# EAGLE library part ADXL345BKO (library domonetic)
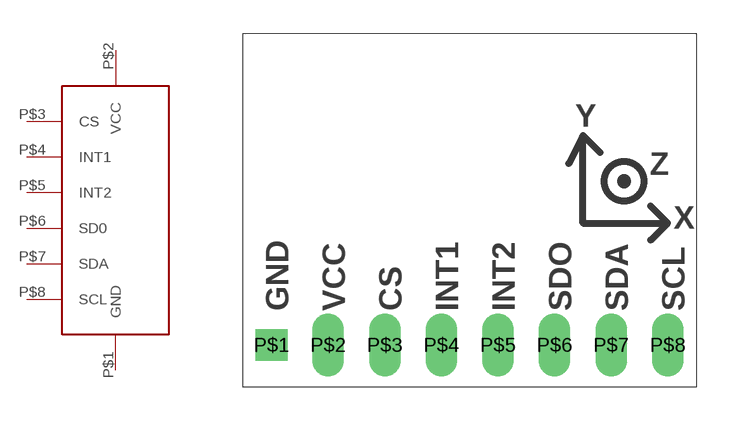
[diagram p16: symbol with the pads of ADXL345BKO; footprint ADXL345BKO]

Designator prefix -

## ADXL345BKO  [ADXL345BKO]
P$1  GND
P$2  VCC
P$3  CS
P$4  INT1
P$5  INT2
P$6  SD0
P$7  SDA
P$8  SCL

## Footprint ADXL345BKO (pad centres in mm)
drill 0.8 pad 1.422 square: P$1 0,0
drill 0.8 pad 1.422 long: P$2 2.54,0; P$3 5.08,0; P$4 7.62,0; P$5 10.16,0; P$6 12.7,0; P$7 15.24,0; P$8 17.78,0